# Altium schematic symbol library CRCW040248K7FKED.SchLib: 1 symbol
Pins are listed as number, name and electrical type; pins without a type are passive.

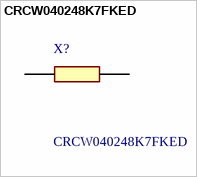
[diagram p0: symbol CRCW040248K7FKED]

## CRCW040248K7FKED
designator X?
Vishay CRCW Series Thick Film Resistor 0402 Case 48.7k 1% 0.063W +/-100ppm/K; Geometry.Height: 0.4mm; Manufacturer_Name: Vishay; Manufacturer_Part_Number: CRCW040248K7FKED; Mouser Part Number: 71-CRCW0402-48.7K-E3; Mouser Price/Stock: https://www.mouser.co.uk/ProductDetail/Vishay-Dale/CRCW040248K7FKED?qs=hAuyw6LW%252BLjLERyYwOFdTQ%3D%3D; Arrow Part Number: CRCW040248K7FKED; Arrow Price/Stock: https://www.arrow.com/en/products/crcw040248k7fked/vishay; Datasheet Link: http://www.vishay.com/docs/20035/dcrcwe3.pdf
footprint RESC1005X40N
pins: 1, 2